# Altium schematic symbol library EISI.SchLib: 270 symbols (part 3 of 3)
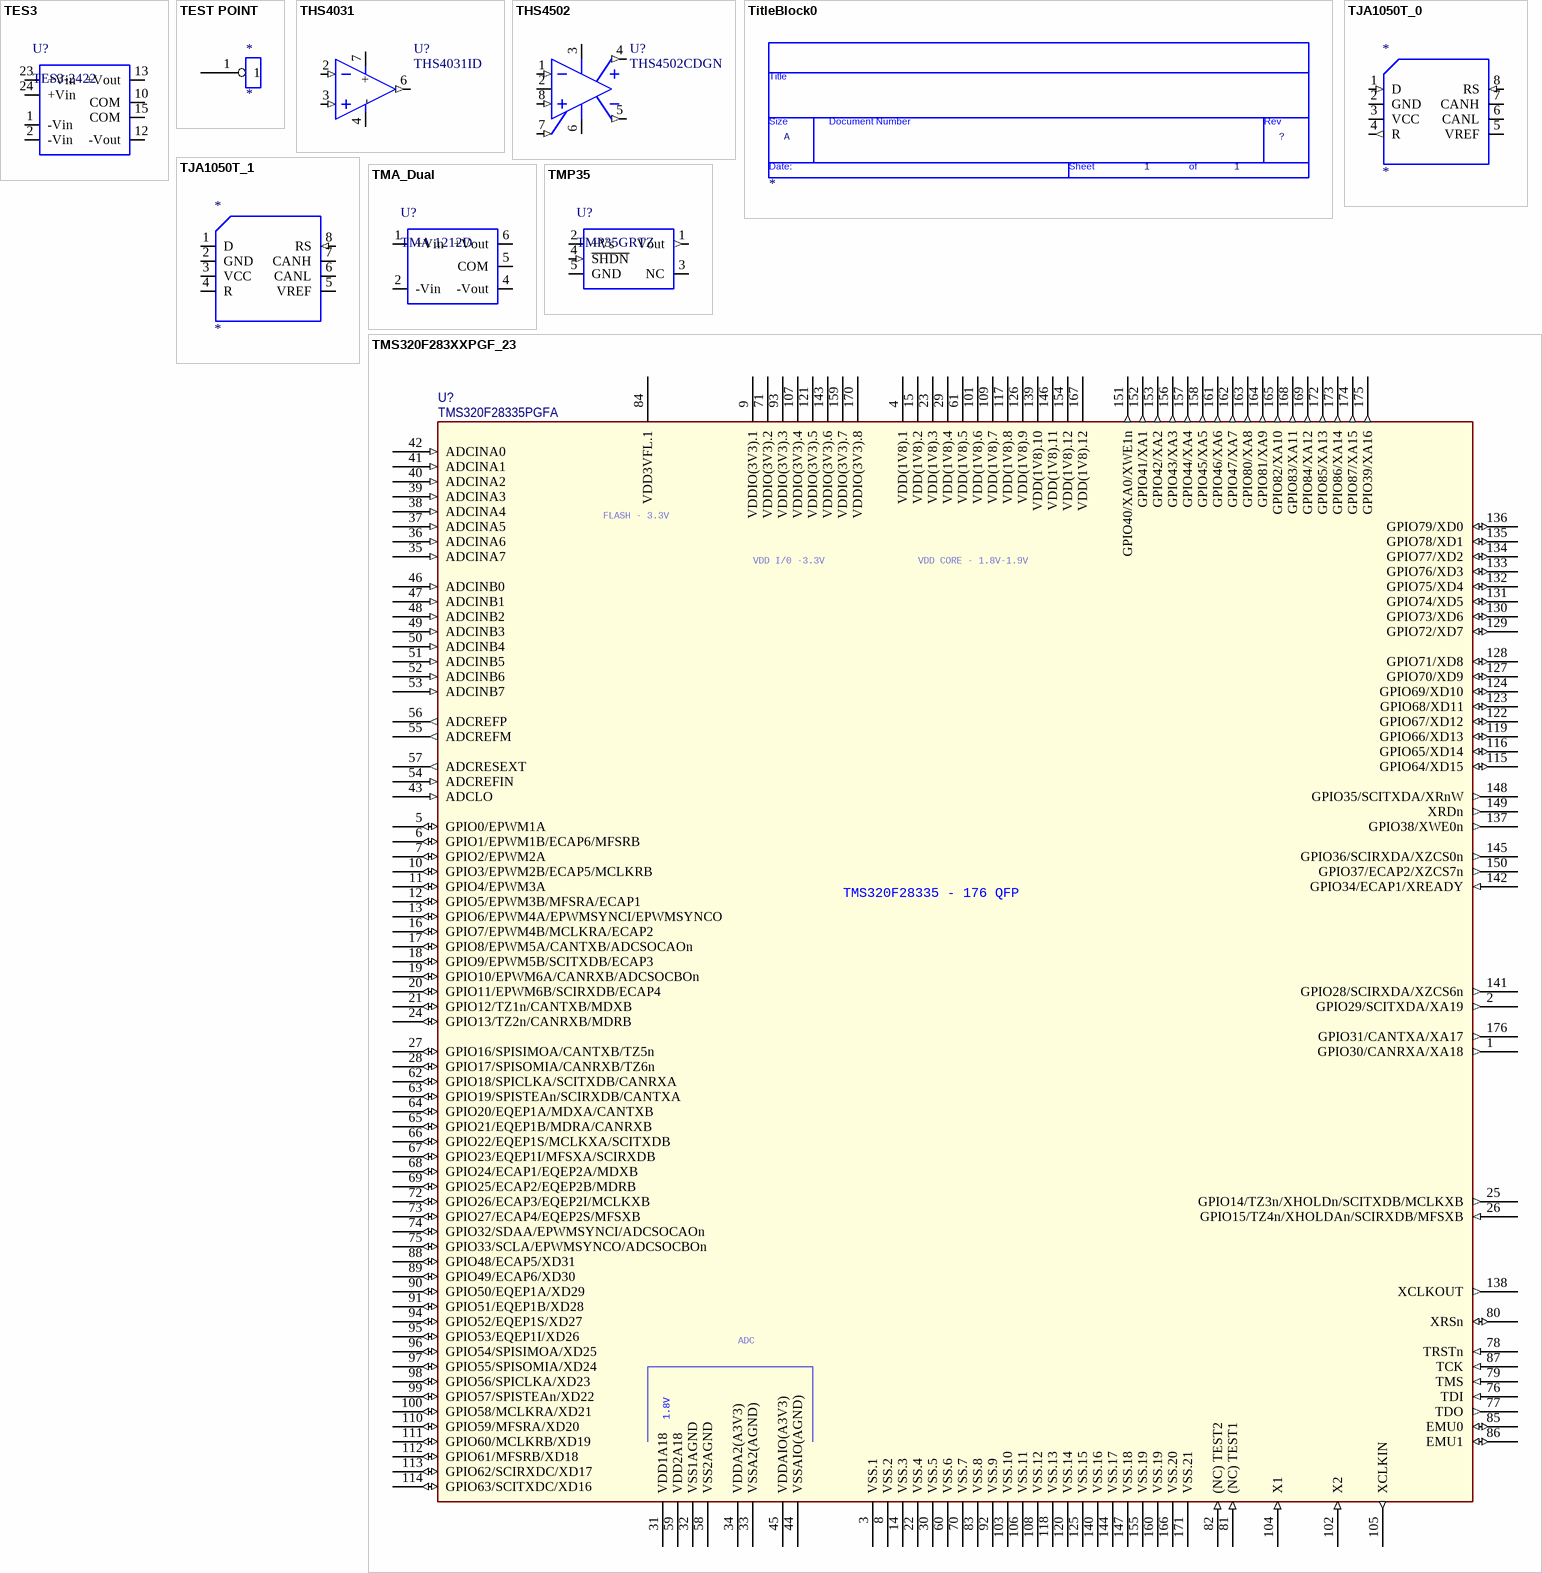
[diagram p21: symbols TES3 to TMS320F283XXPGF_23]

## TMS320F283XXPGF_23
designator U?, comment TMS320F28335PGFA
Part #: 101463-0176
footprint TQFP176 (176-Pin Thin Quad Flat Pack 0.5 mm Pitch, IPC Medium Density)
footprint intp-ic1-1764-1505_176p
pins: 1 GPIO30/CANRXA/XA18 (out), 2 GPIO29/SCITXDA/XA19 (out), 3 VSS.1 (power), 4 VDD(1V8).1 (power), 5 GPIO0/EPWM1A (io), 6 GPIO1/EPWM1B/ECAP6/MFSRB (io), 7 GPIO2/EPWM2A (io), 8 VSS.2 (power), 9 VDDIO(3V3).1 (power), 10 GPIO3/EPWM2B/ECAP5/MCLKRB (io), 11 GPIO4/EPWM3A (io), 12 GPIO5/EPWM3B/MFSRA/ECAP1 (io), 13 GPIO6/EPWM4A/EPWMSYNCI/EPWMSYNCO (io), 14 VSS.3 (power), 15 VDD(1V8).2 (power), 16 GPIO7/EPWM4B/MCLKRA/ECAP2 (io), 17 GPIO8/EPWM5A/CANTXB/ADCSOCAOn (io), 18 GPIO9/EPWM5B/SCITXDB/ECAP3 (io), 19 GPIO10/EPWM6A/CANRXB/ADCSOCBOn (io), 20 GPIO11/EPWM6B/SCIRXDB/ECAP4 (io), 21 GPIO12/TZ1n/CANTXB/MDXB (io), 22 VSS.4 (power), 23 VDD(1V8).3 (power), 24 GPIO13/TZ2n/CANRXB/MDRB (io), 25 GPIO14/TZ3n/XHOLDn/SCITXDB/MCLKXB (out), 26 GPIO15/TZ4n/XHOLDAn/SCIRXDB/MFSXB (in), 27 GPIO16/SPISIMOA/CANTXB/TZ5n (io), 28 GPIO17/SPISOMIA/CANRXB/TZ6n (io), 29 VDD(1V8).4 (power), 30 VSS.5 (power), 31 VDD1A18 (power), 32 VSS1AGND (power), 33 VSSA2(AGND) (power), 34 VDDA2(A3V3) (power), 35 ADCINA7 (in), 36 ADCINA6 (in), 37 ADCINA5 (in), 38 ADCINA4 (in), 39 ADCINA3 (in), 40 ADCINA2 (in), 41 ADCINA1 (in), 42 ADCINA0 (in), 43 ADCLO (in), 44 VSSAIO(AGND) (power), 45 VDDAIO(A3V3) (power), 46 ADCINB0 (in), 47 ADCINB1 (in), 48 ADCINB2 (in), 49 ADCINB3 (in), 50 ADCINB4 (in), 51 ADCINB5 (in), 52 ADCINB6 (in), 53 ADCINB7 (in), 54 ADCREFIN (in), 55 ADCREFM (out), 56 ADCREFP (out), 57 ADCRESEXT (out), 58 VSS2AGND (power), 59 VDD2A18 (power), 60 VSS.6 (power), 61 VDD(1V8).5 (power), 62 GPIO18/SPICLKA/SCITXDB/CANRXA (io), 63 GPIO19/SPISTEAn/SCIRXDB/CANTXA (io), 64 GPIO20/EQEP1A/MDXA/CANTXB (io), 65 GPIO21/EQEP1B/MDRA/CANRXB (io), 66 GPIO22/EQEP1S/MCLKXA/SCITXDB (io), 67 GPIO23/EQEP1I/MFSXA/SCIRXDB (io), 68 GPIO24/ECAP1/EQEP2A/MDXB (io), 69 GPIO25/ECAP2/EQEP2B/MDRB (io), 70 VSS.7 (power), 71 VDDIO(3V3).2 (power), 72 GPIO26/ECAP3/EQEP2I/MCLKXB (io), 73 GPIO27/ECAP4/EQEP2S/MFSXB (io), 74 GPIO32/SDAA/EPWMSYNCI/ADCSOCAOn (io), 75 GPIO33/SCLA/EPWMSYNCO/ADCSOCBOn (io), 76 TDI (in), 77 TDO (out), 78 TRSTn (in), 79 TMS (in), 80 XRSn (io), 81 (NC) TEST1 (in), 82 (NC) TEST2 (in), 83 VSS.8 (power), 84 VDD3VFL.1 (power), 85 EMU0 (io), 86 EMU1 (io), 87 TCK (in), 88 GPIO48/ECAP5/XD31 (io), 89 GPIO49/ECAP6/XD30 (io), 90 GPIO50/EQEP1A/XD29 (io), 91 GPIO51/EQEP1B/XD28 (io), 92 VSS.9 (power), 93 VDDIO(3V3).3 (power), 94 GPIO52/EQEP1S/XD27 (io), 95 GPIO53/EQEP1I/XD26 (io), 96 GPIO54/SPISIMOA/XD25 (io), 97 GPIO55/SPISOMIA/XD24 (io), 98 GPIO56/SPICLKA/XD23 (io), 99 GPIO57/SPISTEAn/XD22 (io), 100 GPIO58/MCLKRA/XD21 (io), 101 VDD(1V8).6 (power), 102 X2 (in), 103 VSS.10 (power), 104 X1 (in), 105 XCLKIN (out), 106 VSS.11 (power), 107 VDDIO(3V3).4 (power), 108 VSS.12 (power), 109 VDD(1V8).7 (power), 110 GPIO59/MFSRA/XD20 (io), 111 GPIO60/MCLKRB/XD19 (io), 112 GPIO61/MFSRB/XD18 (io), 113 GPIO62/SCIRXDC/XD17 (io), 114 GPIO63/SCITXDC/XD16 (io), 115 GPIO64/XD15 (io), 116 GPIO65/XD14 (io), 117 VDD(1V8).8 (power), 118 VSS.13 (power), 119 GPIO66/XD13 (io), 120 VSS.14 (power), 121 VDDIO(3V3).5 (power), 122 GPIO67/XD12 (io), 123 GPIO68/XD11 (io), 124 GPIO69/XD10 (io), 125 VSS.15 (power), 126 VDD(1V8).9 (power), 127 GPIO70/XD9 (io), 128 GPIO71/XD8 (io), 129 GPIO72/XD7 (io), 130 GPIO73/XD6 (io), 131 GPIO74/XD5 (io), 132 GPIO75/XD4 (io), 133 GPIO76/XD3 (io), 134 GPIO77/XD2 (io), 135 GPIO78/XD1 (io), 136 GPIO79/XD0 (io), 137 GPIO38/XWE0n (out), 138 XCLKOUT (out), 139 VDD(1V8).10 (power), 140 VSS.16 (power), 141 GPIO28/SCIRXDA/XZCS6n (out), 142 GPIO34/ECAP1/XREADY (in), 143 VDDIO(3V3).6 (power), 144 VSS.17 (power), 145 GPIO36/SCIRXDA/XZCS0n (out), 146 VDD(1V8).11 (power), 147 VSS.18 (power), 148 GPIO35/SCITXDA/XRnW (out), 149 XRDn (out), 150 GPIO37/ECAP2/XZCS7n (out), 151 GPIO40/XA0/XWE1n (out), 152 GPIO41/XA1 (out), 153 GPIO42/XA2 (out), 154 VDD(1V8).12 (power), 155 VSS.19 (power), 156 GPIO43/XA3 (out), 157 GPIO44/XA4 (out), 158 GPIO45/XA5 (out), 159 VDDIO(3V3).7 (power), 160 VSS.19 (power), 161 GPIO46/XA6 (out), 162 GPIO47/XA7 (out), 163 GPIO80/XA8 (out), 164 GPIO81/XA9 (out), 165 GPIO82/XA10 (out), 166 VSS.20 (power), 167 VDD(1V8).12 (power), 168 GPIO83/XA11 (out), 169 GPIO84/XA12 (out), 170 VDDIO(3V3).8 (power), 171 VSS.21 (power), 172 GPIO85/XA13 (out), 173 GPIO86/XA14 (out), 174 GPIO87/XA15 (out), 175 GPIO39/XA16 (out), 176 GPIO31/CANTXA/XA17 (out)
text: FLASH - 3.3V; VDD I/0 -3.3V; VDD CORE - 1.8V-1.9V; TMS320F28335 - 176 QFP; ADC; 1.8V

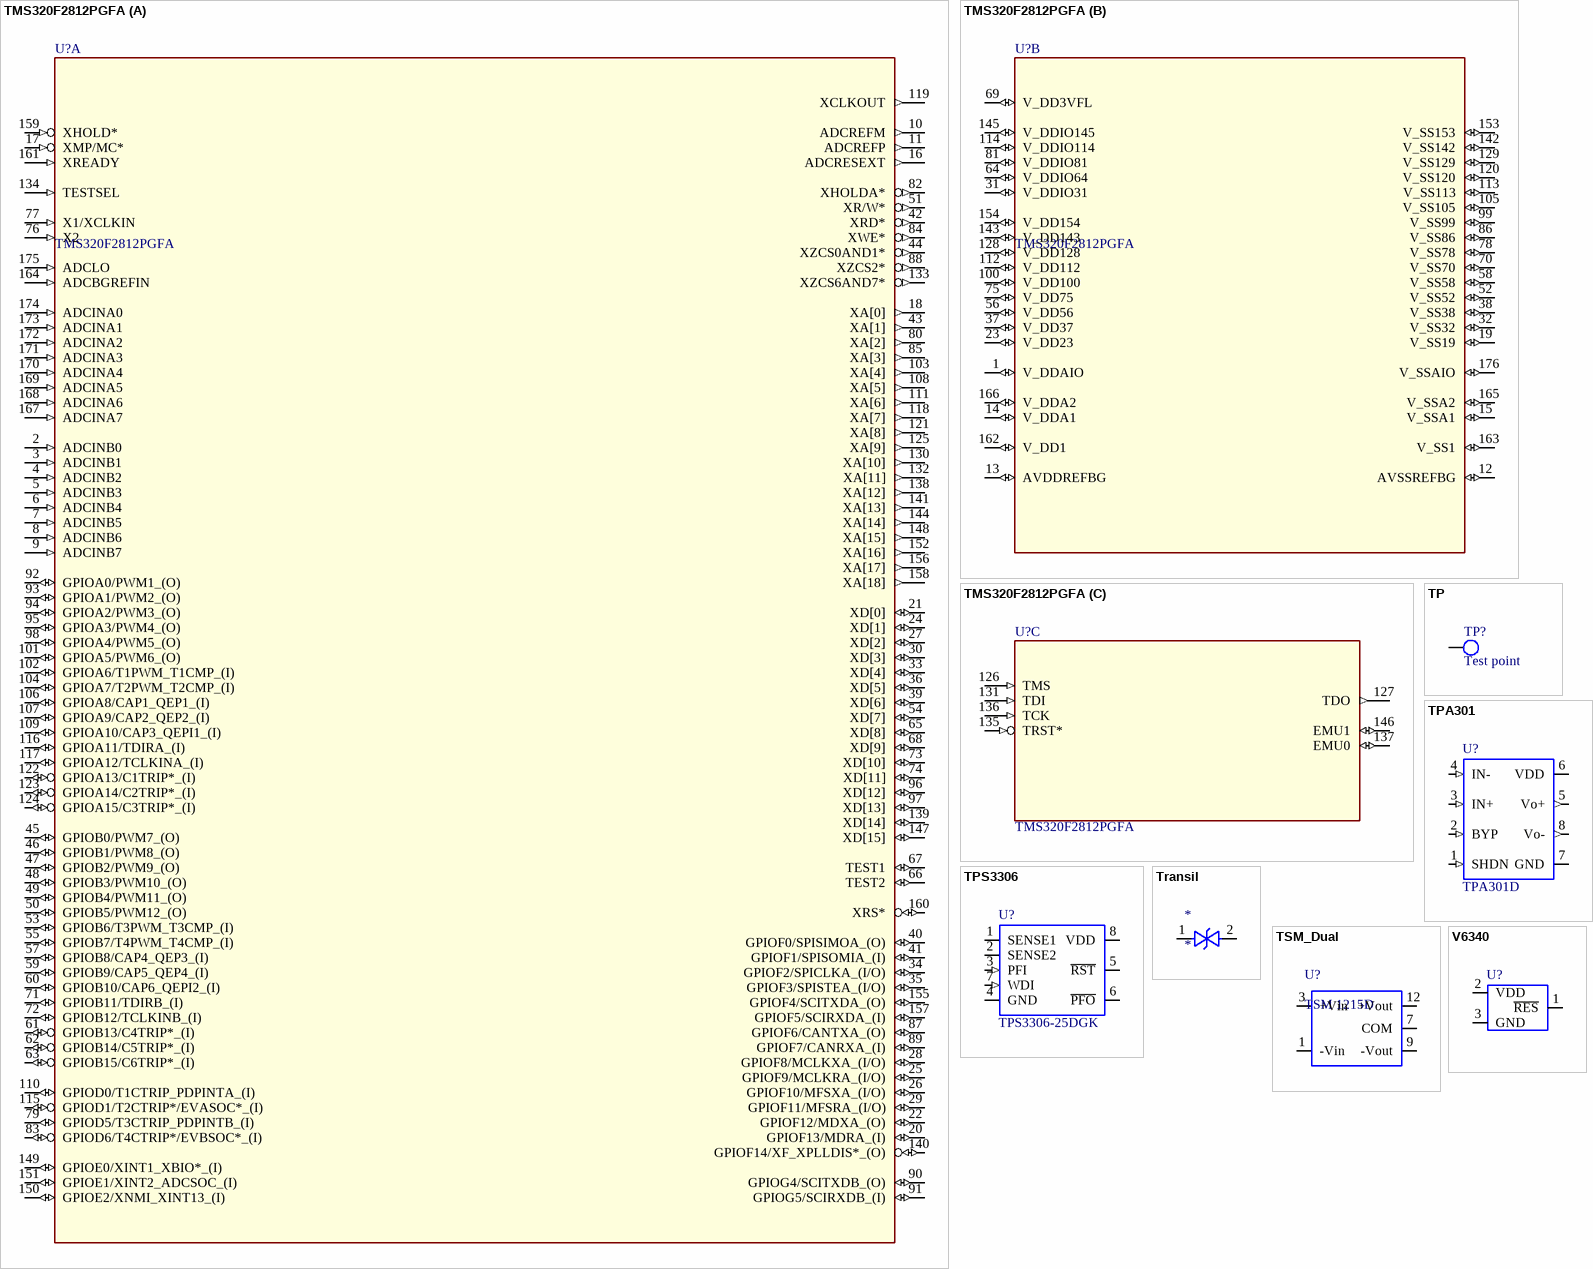
[diagram p14: symbols TMS320F2812PGFA to V6340]

## TMS320F2812PGFA
designator U?
32-Bit Digital Signal Controller with Flash
footprint TQFP176 (176-Pin Thin Quad Flat Pack 0.5 mm Pitch, IPC Medium Density)
part A pins: 2 ADCINB0 (in), 3 ADCINB1 (in), 4 ADCINB2 (in), 5 ADCINB3 (in), 6 ADCINB4 (in), 7 ADCINB5 (in), 8 ADCINB6 (in), 9 ADCINB7 (in), 10 ADCREFM (out), 11 ADCREFP (out), 16 ADCRESEXT (out), 17 XMP/MC* (in), 18 XA[0] (out), 20 GPIOF13/MDRA_(I) (io), 21 XD[0] (io), 22 GPIOF12/MDXA_(O) (io), 24 XD[1] (io), 25 GPIOF9/MCLKRA_(I/O) (io), 26 GPIOF10/MFSXA_(I/O) (io), 27 XD[2] (io), 28 GPIOF8/MCLKXA_(I/O) (io), 29 GPIOF11/MFSRA_(I/O) (io), 30 XD[3] (io), 33 XD[4] (io), 34 GPIOF2/SPICLKA_(I/O) (io), 35 GPIOF3/SPISTEA_(I/O) (io), 36 XD[5] (io), 39 XD[6] (io), 40 GPIOF0/SPISIMOA_(O) (io), 41 GPIOF1/SPISOMIA_(I) (io), 42 XRD* (out), 43 XA[1] (out), 44 XZCS0AND1* (out), 45 GPIOB0/PWM7_(O) (io), 46 GPIOB1/PWM8_(O) (io), 47 GPIOB2/PWM9_(O) (io), 48 GPIOB3/PWM10_(O) (io), 49 GPIOB4/PWM11_(O) (io), 50 GPIOB5/PWM12_(O) (io), 51 XR/W* (out), 53 GPIOB6/T3PWM_T3CMP_(I) (io), 54 XD[7] (io), 55 GPIOB7/T4PWM_T4CMP_(I) (io), 57 GPIOB8/CAP4_QEP3_(I) (io), 59 GPIOB9/CAP5_QEP4_(I) (io), 60 GPIOB10/CAP6_QEPI2_(I) (io), 61 GPIOB13/C4TRIP*_(I) (io), 62 GPIOB14/C5TRIP*_(I) (io), 63 GPIOB15/C6TRIP*_(I) (io), 65 XD[8] (io), 66 TEST2 (io), 67 TEST1 (io), 68 XD[9] (io), 71 GPIOB11/TDIRB_(I) (io), 72 GPIOB12/TCLKINB_(I) (io), 73 XD[10] (io), 74 XD[11] (io), 76 X2 (in), 77 X1/XCLKIN (in), 79 GPIOD5/T3CTRIP_PDPINTB_(I) (io), 80 XA[2] (out), 82 XHOLDA* (out), 83 GPIOD6/T4CTRIP*/EVBSOC*_(I) (io), 84 XWE* (out), 85 XA[3] (out), 87 GPIOF6/CANTXA_(O) (io), 88 XZCS2* (out), 89 GPIOF7/CANRXA_(I) (io), 90 GPIOG4/SCITXDB_(O) (io), 91 GPIOG5/SCIRXDB_(I) (io), 92 GPIOA0/PWM1_(O) (io), 93 GPIOA1/PWM2_(O) (io), 94 GPIOA2/PWM3_(O) (io), 95 GPIOA3/PWM4_(O) (io), 96 XD[12] (io), 97 XD[13] (io), 98 GPIOA4/PWM5_(O) (io), 101 GPIOA5/PWM6_(O) (io), 102 GPIOA6/T1PWM_T1CMP_(I) (io), 103 XA[4] (out), 104 GPIOA7/T2PWM_T2CMP_(I) (io), 106 GPIOA8/CAP1_QEP1_(I) (io), 107 GPIOA9/CAP2_QEP2_(I) (io), 108 XA[5] (out), 109 GPIOA10/CAP3_QEPI1_(I) (io), 110 GPIOD0/T1CTRIP_PDPINTA_(I) (io), 111 XA[6] (out), 115 GPIOD1/T2CTRIP*/EVASOC*_(I) (io), 116 GPIOA11/TDIRA_(I) (io), 117 GPIOA12/TCLKINA_(I) (io), 118 XA[7] (out), 119 XCLKOUT (out), 121 XA[8] (out), 122 GPIOA13/C1TRIP*_(I) (io), 123 GPIOA14/C2TRIP*_(I) (io), 124 GPIOA15/C3TRIP*_(I) (io), 125 XA[9] (out), 130 XA[10] (out), 132 XA[11] (out), 133 XZCS6AND7* (out), 134 TESTSEL (in), 138 XA[12] (out), 139 XD[14] (io), 140 GPIOF14/XF_XPLLDIS*_(O) (io), 141 XA[13] (out), 144 XA[14] (out), 147 XD[15] (io), 148 XA[15] (out), 149 GPIOE0/XINT1_XBIO*_(I) (io), 150 GPIOE2/XNMI_XINT13_(I) (io), 151 GPIOE1/XINT2_ADCSOC_(I) (io), 152 XA[16] (out), 155 GPIOF4/SCITXDA_(O) (io), 156 XA[17] (out), 157 GPIOF5/SCIRXDA_(I) (io), 158 XA[18] (out), 159 XHOLD* (in), 160 XRS* (io), 161 XREADY (in), 164 ADCBGREFIN (in), 167 ADCINA7 (in), 168 ADCINA6 (in), 169 ADCINA5 (in), 170 ADCINA4 (in), 171 ADCINA3 (in), 172 ADCINA2 (in), 173 ADCINA1 (in), 174 ADCINA0 (in), 175 ADCLO (in)
part B pins: 1 V_DDAIO (io), 12 AVSSREFBG (io), 13 AVDDREFBG (io), 14 V_DDA1 (io), 15 V_SSA1 (io), 19 V_SS19 (io), 23 V_DD23 (io), 31 V_DDIO31 (io), 32 V_SS32 (io), 37 V_DD37 (io), 38 V_SS38 (io), 52 V_SS52 (io), 56 V_DD56 (io), 58 V_SS58 (io), 64 V_DDIO64 (io), 69 V_DD3VFL (io), 70 V_SS70 (io), 75 V_DD75 (io), 78 V_SS78 (io), 81 V_DDIO81 (io), 86 V_SS86 (io), 99 V_SS99 (io), 100 V_DD100 (io), 105 V_SS105 (io), 112 V_DD112 (io), 113 V_SS113 (io), 114 V_DDIO114 (io), 120 V_SS120 (io), 128 V_DD128 (io), 129 V_SS129 (io), 142 V_SS142 (io), 143 V_DD143 (io), 145 V_DDIO145 (io), 153 V_SS153 (io), 154 V_DD154 (io), 162 V_DD1 (io), 163 V_SS1 (io), 165 V_SSA2 (io), 166 V_DDA2 (io), 176 V_SSAIO (io)
part C pins: 126 TMS (in), 127 TDO (out), 131 TDI (in), 135 TRST* (in), 136 TCK (in), 137 EMU0 (io), 146 EMU1 (io)

## TP
designator TP?, comment Test point
footprint TP (Test point)
pins: 1 TP

## TPA301
designator U?, comment TPA301D
Audio power amplifier
footprint SO801
pins: 1 SHDN (in), 2 BYP (in), 3 IN+ (in), 4 IN- (in), 5 Vo+ (out), 6 VDD (power), 7 GND (power), 8 Vo- (out)

## TPS3306
designator U?, comment TPS3306-25DGK
Dual Processor Supervisory Circuit
footprint UMAX8 (Shrink Small Outline; 8 Leads; Body Width 3 mm; Pitch 0.65 mm)
pins: 1 SENSE1 (power), 2 SENSE2 (power), 3 PFI (in), 4 GND (power), 5 ~{RST} (oc), 6 ~{PFO} (oc), 7 WDI (in), 8 VDD (power)

## Transil
designator *
pins: 1 (power), 2 (power)

## TSM_Dual
designator U?, comment TSM 1215D
DC/DC Converter 1W Dual outputs; Manufacturer: Traco Power
footprint TSM_Dual (DC/DC Traco TSM dual)
pins: 1 -Vin (power), 3 +Vin (power), 7 COM (power), 9 -Vout (power), 12 +Vout (power)

## V6340
designator U?
uP reset circuit open-drain
footprint SOT2301
pins: 1 ~{RES} (oc), 2 VDD (power), 3 GND (power)

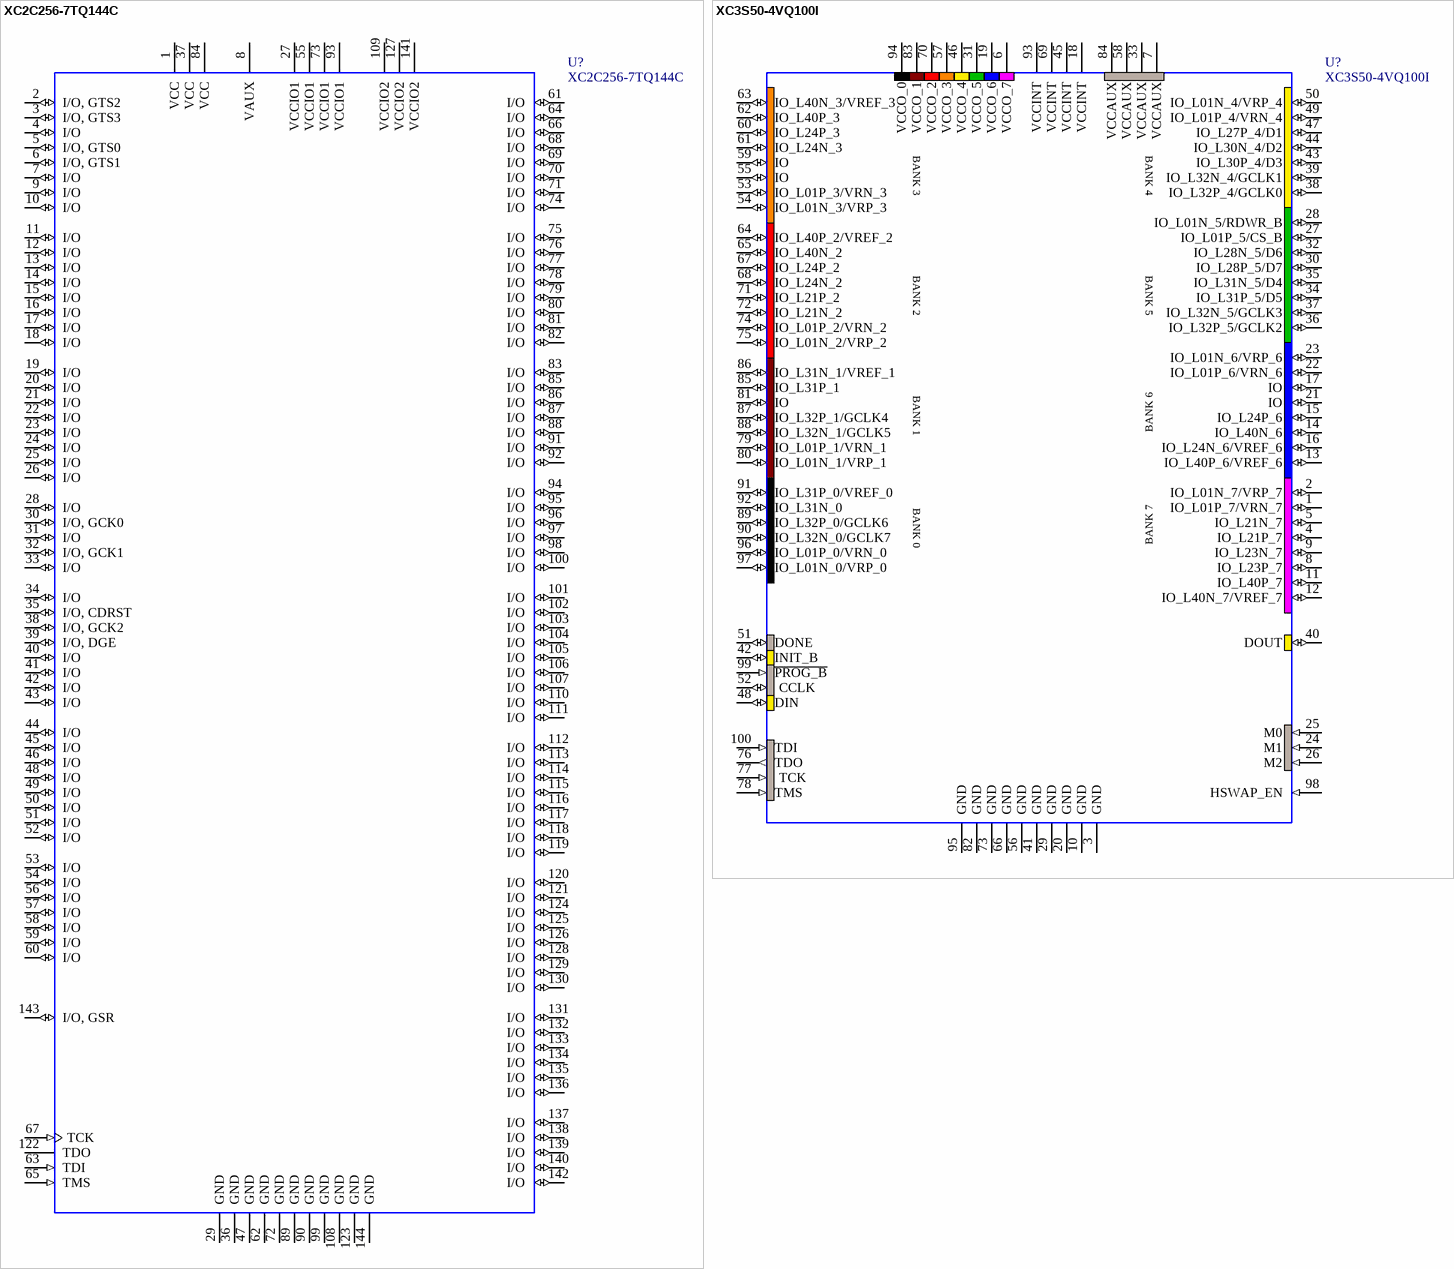
[diagram p15: symbols XC2C256-7TQ144C to XC3S50-4VQ100I]

## XC2C256-7TQ144C
designator U?
CoolRunner-II, 1.8V, 256 Macrocell CPLD, 144-Pin TQFP
footprint TQ144 (144-Pin Thin Quad Flat Pack (TQ144))
pins: 1 VCC (power), 2 I/O, GTS2 (io), 3 I/O, GTS3 (io), 4 I/O (io), 5 I/O, GTS0 (io), 6 I/O, GTS1 (io), 7 I/O (io), 8 VAUX (power), 9 I/O (io), 10 I/O (io), 11 I/O (io), 12 I/O (io), 13 I/O (io), 14 I/O (io), 15 I/O (io), 16 I/O (io), 17 I/O (io), 18 I/O (io), 19 I/O (io), 20 I/O (io), 21 I/O (io), 22 I/O (io), 23 I/O (io), 24 I/O (io), 25 I/O (io), 26 I/O (io), 27 VCCIO1 (power), 28 I/O (io), 29 GND (power), 30 I/O, GCK0 (io), 31 I/O (io), 32 I/O, GCK1 (io), 33 I/O (io), 34 I/O (io), 35 I/O, CDRST (io), 36 GND (power), 37 VCC (power), 38 I/O, GCK2 (io), 39 I/O, DGE (io), 40 I/O (io), 41 I/O (io), 42 I/O (io), 43 I/O (io), 44 I/O (io), 45 I/O (io), 46 I/O (io), 47 GND (power), 48 I/O (io), 49 I/O (io), 50 I/O (io), 51 I/O (io), 52 I/O (io), 53 I/O (io), 54 I/O (io), 55 VCCIO1 (power), 56 I/O (io), 57 I/O (io), 58 I/O (io), 59 I/O (io), 60 I/O (io), 61 I/O (io), 62 GND (power), 63 TDI (in), 64 I/O (io), 65 TMS (in), 66 I/O (io), 67 TCK (in), 68 I/O (io), 69 I/O (io), 70 I/O (io), 71 I/O (io), 72 GND (power), 73 VCCIO1 (power), 74 I/O (io), 75 I/O (io), 76 I/O (io), 77 I/O (io), 78 I/O (io), 79 I/O (io), 80 I/O (io), 81 I/O (io), 82 I/O (io), 83 I/O (io), 84 VCC (power), 85 I/O (io), 86 I/O (io), 87 I/O (io), 88 I/O (io), 89 GND (power), 90 GND (power), 91 I/O (io), 92 I/O (io), 93 VCCIO1 (power), 94 I/O (io), 95 I/O (io), 96 I/O (io), 97 I/O (io), 98 I/O (io), 99 GND (power), 100 I/O (io), 101 I/O (io), 102 I/O (io), 103 I/O (io), 104 I/O (io), 105 I/O (io), 106 I/O (io), 107 I/O (io), 108 GND (power), 109 VCCIO2 (power), 110 I/O (io), 111 I/O (io), 112 I/O (io), 113 I/O (io), 114 I/O (io), 115 I/O (io), 116 I/O (io), 117 I/O (io), 118 I/O (io), 119 I/O (io), 120 I/O (io), 121 I/O (io), 122 TDO (hiz), 123 GND (power), 124 I/O (io), 125 I/O (io), 126 I/O (io), 127 VCCIO2 (power), 128 I/O (io), 129 I/O (io), 130 I/O (io), 131 I/O (io), 132 I/O (io), 133 I/O (io), 134 I/O (io), 135 I/O (io), 136 I/O (io), 137 I/O (io), 138 I/O (io), 139 I/O (io), 140 I/O (io), 141 VCCIO2 (power), 142 I/O (io), 143 I/O, GSR (io), 144 GND (power)

## XC3S50-4VQ100I
designator U?
Spartan-3 1.2V FPGA, 63 User I/Os, 100-pin VQFP, Standard Performance, Industrial Grade; Package Information: Latest Revision: ver1.1, Oct-2002; Code - JEDEC: MS-026-AED; Code - IPC: SQFP14X14-100; Published: 17-Sep-2003; Datasheet: Latest Revision: Dec-2003; Package Reference: VQ100; Publisher: Altium Limited
footprint VQ100 (100-Pin Very Thin Quad Flat Pack (VQ100))
3D model XC3S50-VQ100 (PCB3D Model)
pins: 1 IO_L01P_7/VRN_7 (io), 2 IO_L01N_7/VRP_7 (io), 3 GND (power), 4 IO_L21P_7 (io), 5 IO_L21N_7 (io), 6 VCCO_7 (power), 7 VCCAUX (power), 8 IO_L23P_7 (io), 9 IO_L23N_7 (io), 10 GND (power), 11 IO_L40P_7 (io), 12 IO_L40N_7/VREF_7 (io), 13 IO_L40P_6/VREF_6 (io), 14 IO_L40N_6 (io), 15 IO_L24P_6 (io), 16 IO_L24N_6/VREF_6 (io), 17 IO (io), 18 VCCINT (power), 19 VCCO_6 (power), 20 GND (power), 21 IO (io), 22 IO_L01P_6/VRN_6 (io), 23 IO_L01N_6/VRP_6 (io), 24 M1 (in), 25 M0 (in), 26 M2 (in), 27 IO_L01P_5/CS_B (io), 28 IO_L01N_5/RDWR_B (io), 29 GND (power), 30 IO_L28P_5/D7 (io), 31 VCCO_5 (power), 32 IO_L28N_5/D6 (io), 33 VCCAUX (power), 34 IO_L31P_5/D5 (io), 35 IO_L31N_5/D4 (io), 36 IO_L32P_5/GCLK2 (io), 37 IO_L32N_5/GCLK3 (io), 38 IO_L32P_4/GCLK0 (io), 39 IO_L32N_4/GCLK1 (io), 40 DOUT (io), 41 GND (power), 42 INIT_B (io), 43 IO_L30P_4/D3 (io), 44 IO_L30N_4/D2 (io), 45 VCCINT (power), 46 VCCO_4 (power), 47 IO_L27P_4/D1 (io), 48 DIN (io), 49 IO_L01P_4/VRN_4 (io), 50 IO_L01N_4/VRP_4 (io), 51 DONE (io), 52 CCLK (io), 53 IO_L01P_3/VRN_3 (io), 54 IO_L01N_3/VRP_3 (io), 55 IO (io), 56 GND (power), 57 VCCO_3 (power), 58 VCCAUX (power), 59 IO (io), 60 IO_L24P_3 (io), 61 IO_L24N_3 (io), 62 IO_L40P_3 (io), 63 IO_L40N_3/VREF_3 (io), 64 IO_L40P_2/VREF_2 (io), 65 IO_L40N_2 (io), 66 GND (power), 67 IO_L24P_2 (io), 68 IO_L24N_2 (io), 69 VCCINT (power), 70 VCCO_2 (power), 71 IO_L21P_2 (io), 72 IO_L21N_2 (io), 73 GND (power), 74 IO_L01P_2/VRN_2 (io), 75 IO_L01N_2/VRP_2 (io), 76 TDO (out), 77 TCK (in), 78 TMS (in), 79 IO_L01P_1/VRN_1 (io), 80 IO_L01N_1/VRP_1 (io), 81 IO (io), 82 GND (power), 83 VCCO_1 (power), 84 VCCAUX (power), 85 IO_L31P_1 (io), 86 IO_L31N_1/VREF_1 (io), 87 IO_L32P_1/GCLK4 (io), 88 IO_L32N_1/GCLK5 (io), 89 IO_L32P_0/GCLK6 (io), 90 IO_L32N_0/GCLK7 (io), 91 IO_L31P_0/VREF_0 (io), 92 IO_L31N_0 (io), 93 VCCINT (power), 94 VCCO_0 (power), 95 GND (power), 96 IO_L01P_0/VRN_0 (io), 97 IO_L01N_0/VRP_0 (io), 98 HSWAP_EN (in), 99 ~{PROG_B} (in), 100 TDI (in)
text: BANK 3; BANK 4; BANK 2; BANK 5; BANK 1; BANK 6; BANK 0; BANK 7

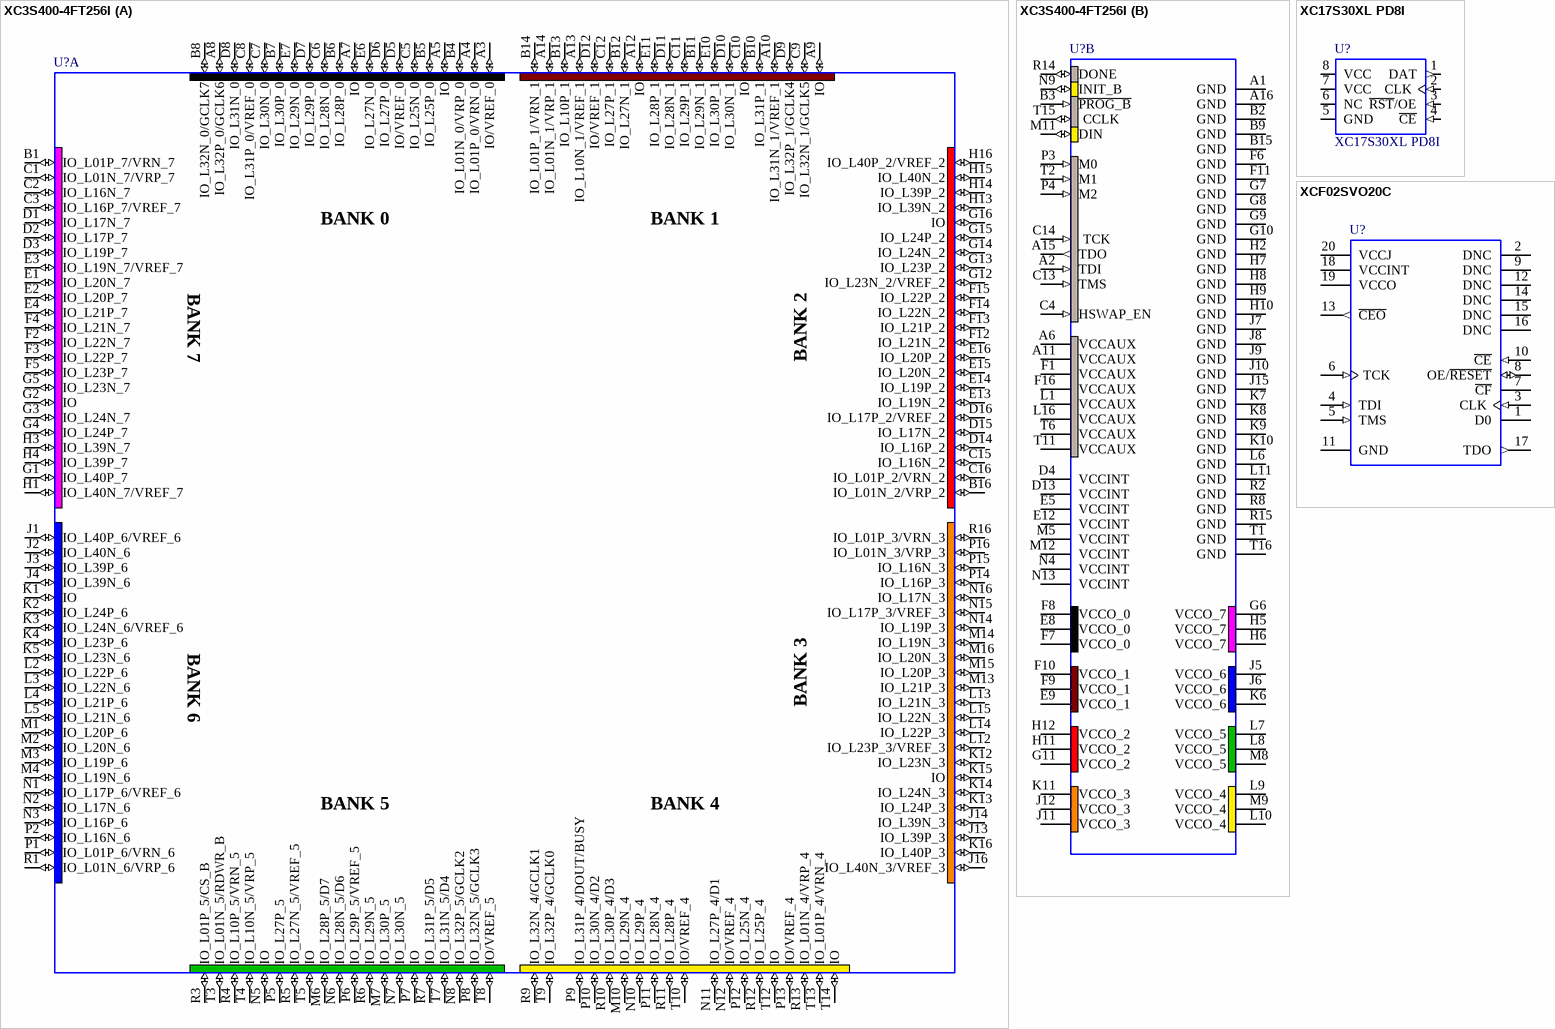
[diagram p16: symbols XC3S400-4FT256I to XCF02SVO20C]

## XC3S400-4FT256I
designator U?
Spartan-3 1.2V FPGA
footprint FT256
3D model XC3S400-FT256 (256-Ball Fine Pitch Thin Ball Grid Array (FT256))
part A pins: A3 IO/VREF_0 (io), A4 IO_L01P_0/VRN_0 (io), A5 IO (io), A7 IO (io), A8 IO_L32P_0/GCLK6 (io), A9 IO (io), A10 IO_L31N_1/VREF_1 (io), A12 IO (io), A13 IO_L10N_1/VREF_1 (io), A14 IO_L01N_1/VRP_1 (io), B1 IO_L01P_7/VRN_7 (io), B4 IO_L01N_0/VRP_0 (io), B5 IO_L25P_0 (io), B6 IO_L28P_0 (io), B7 IO_L30P_0 (io), B8 IO_L32N_0/GCLK7 (io), B10 IO_L31P_1 (io), B11 IO_L29N_1 (io), B12 IO_L27N_1 (io), B13 IO_L10P_1 (io), B14 IO_L01P_1/VRN_1 (io), B16 IO_L01N_2/VRP_2 (io), C1 IO_L01N_7/VRP_7 (io), C2 IO_L16N_7 (io), C3 IO_L16P_7/VREF_7 (io), C5 IO_L25N_0 (io), C6 IO_L28N_0 (io), C7 IO_L30N_0 (io), C8 IO_L31P_0/VREF_0 (io), C9 IO_L32N_1/GCLK5 (io), C10 IO (io), C11 IO_L29P_1 (io), C12 IO_L27P_1 (io), C15 IO_L16N_2 (io), C16 IO_L01P_2/VRN_2 (io), D1 IO_L17N_7 (io), D2 IO_L17P_7 (io), D3 IO_L19P_7 (io), D5 IO/VREF_0 (io), D6 IO_L27P_0 (io), D7 IO_L29P_0 (io), D8 IO_L31N_0 (io), D9 IO_L32P_1/GCLK4 (io), D10 IO_L30N_1 (io), D11 IO_L28N_1 (io), D12 IO/VREF_1 (io), D14 IO_L16P_2 (io), D15 IO_L17N_2 (io), D16 IO_L17P_2/VREF_2 (io), E1 IO_L20N_7 (io), E2 IO_L20P_7 (io), E3 IO_L19N_7/VREF_7 (io), E4 IO_L21P_7 (io), E6 IO_L27N_0 (io), E7 IO_L29N_0 (io), E10 IO_L30P_1 (io), E11 IO_L28P_1 (io), E13 IO_L19N_2 (io), E14 IO_L19P_2 (io), E15 IO_L20N_2 (io), E16 IO_L20P_2 (io), F2 IO_L22N_7 (io), F3 IO_L22P_7 (io), F4 IO_L21N_7 (io), F5 IO_L23P_7 (io), F12 IO_L21N_2 (io), F13 IO_L21P_2 (io), F14 IO_L22N_2 (io), F15 IO_L22P_2 (io), G1 IO_L40P_7 (io), G2 IO (io), G3 IO_L24N_7 (io), G4 IO_L24P_7 (io), G5 IO_L23N_7 (io), G12 IO_L23N_2/VREF_2 (io), G13 IO_L23P_2 (io), G14 IO_L24N_2 (io), G15 IO_L24P_2 (io), G16 IO (io), H1 IO_L40N_7/VREF_7 (io), H3 IO_L39N_7 (io), H4 IO_L39P_7 (io), H13 IO_L39N_2 (io), H14 IO_L39P_2 (io), H15 IO_L40N_2 (io), H16 IO_L40P_2/VREF_2 (io), J1 IO_L40P_6/VREF_6 (io), J2 IO_L40N_6 (io), J3 IO_L39P_6 (io), J4 IO_L39N_6 (io), J13 IO_L39P_3 (io), J14 IO_L39N_3 (io), J16 IO_L40N_3/VREF_3 (io), K1 IO (io), K2 IO_L24P_6 (io), K3 IO_L24N_6/VREF_6 (io), K4 IO_L23P_6 (io), K5 IO_L23N_6 (io), K12 IO_L23N_3 (io), K13 IO_L24P_3 (io), K14 IO_L24N_3 (io), K15 IO (io), K16 IO_L40P_3 (io), L2 IO_L22P_6 (io), L3 IO_L22N_6 (io), L4 IO_L21P_6 (io), L5 IO_L21N_6 (io), L12 IO_L23P_3/VREF_3 (io), L13 IO_L21N_3 (io), L14 IO_L22P_3 (io), L15 IO_L22N_3 (io), M1 IO_L20P_6 (io), M2 IO_L20N_6 (io), M3 IO_L19P_6 (io), M4 IO_L19N_6 (io), M6 IO_L28P_5/D7 (io), M7 IO_L30P_5 (io), M10 IO_L29N_4 (io), M13 IO_L21P_3 (io), M14 IO_L19N_3 (io), M15 IO_L20P_3 (io), M16 IO_L20N_3 (io), N1 IO_L17P_6/VREF_6 (io), N2 IO_L17N_6 (io), N3 IO_L16P_6 (io), N5 IO (io), N6 IO_L28N_5/D6 (io), N7 IO_L30N_5 (io), N8 IO_L32P_5/GCLK2 (io), N10 IO_L29P_4 (io), N11 IO_L27P_4/D1 (io), N12 IO/VREF_4 (io), N14 IO_L19P_3 (io), N15 IO_L17P_3/VREF_3 (io), N16 IO_L17N_3 (io), P1 IO_L01P_6/VRN_6 (io), P2 IO_L16N_6 (io), P5 IO_L27P_5 (io), P6 IO_L29P_5/VREF_5 (io), P7 IO (io), P8 IO_L32N_5/GCLK3 (io), P9 IO_L31P_4/DOUT/BUSY (io), P10 IO_L30N_4/D2 (io), P11 IO_L28N_4 (io), P12 IO_L25N_4 (io), P13 IO/VREF_4 (io), P14 IO_L16P_3 (io), P15 IO_L16N_3 (io), P16 IO_L01N_3/VRP_3 (io), R1 IO_L01N_6/VRP_6 (io), R3 IO_L01P_5/CS_B (io), R4 IO_L10P_5/VRN_5 (io), R5 IO_L27N_5/VREF_5 (io), R6 IO_L29N_5 (io), R7 IO_L31P_5/D5 (io), R9 IO_L32N_4/GCLK1 (io), R10 IO_L30P_4/D3 (io), R11 IO_L28P_4 (io), R12 IO_L25P_4 (io), R13 IO_L01N_4/VRP_4 (io), R16 IO_L01P_3/VRN_3 (io), T3 IO_L01N_5/RDWR_B (io), T4 IO_L10N_5/VRP_5 (io), T5 IO (io), T7 IO_L31N_5/D4 (io), T8 IO/VREF_5 (io), T9 IO_L32P_4/GCLK0 (io), T10 IO/VREF_4 (io), T12 IO (io), T13 IO_L01P_4/VRN_4 (io), T14 IO (io)
part B pins: A1 GND (power), A2 TDI (in), A6 VCCAUX (power), A11 VCCAUX (power), A15 TDO (out), A16 GND (power), B2 GND (power), B3 ~{PROG_B} (in), B9 GND (power), B15 GND (power), C4 HSWAP_EN (in), C13 TMS (in), C14 TCK (in), D4 VCCINT (power), D13 VCCINT (power), E5 VCCINT (power), E8 VCCO_0 (power), E9 VCCO_1 (power), E12 VCCINT (power), F1 VCCAUX (power), F6 GND (power), F7 VCCO_0 (power), F8 VCCO_0 (power), F9 VCCO_1 (power), F10 VCCO_1 (power), F11 GND (power), F16 VCCAUX (power), G6 VCCO_7 (power), G7 GND (power), G8 GND (power), G9 GND (power), G10 GND (power), G11 VCCO_2 (power), H2 GND (power), H5 VCCO_7 (power), H6 VCCO_7 (power), H7 GND (power), H8 GND (power), H9 GND (power), H10 GND (power), H11 VCCO_2 (power), H12 VCCO_2 (power), J5 VCCO_6 (power), J6 VCCO_6 (power), J7 GND (power), J8 GND (power), J9 GND (power), J10 GND (power), J11 VCCO_3 (power), J12 VCCO_3 (power), J15 GND (power), K6 VCCO_6 (power), K7 GND (power), K8 GND (power), K9 GND (power), K10 GND (power), K11 VCCO_3 (power), L1 VCCAUX (power), L6 GND (power), L7 VCCO_5 (power), L8 VCCO_5 (power), L9 VCCO_4 (power), L10 VCCO_4 (power), L11 GND (power), L16 VCCAUX (power), M5 VCCINT (power), M8 VCCO_5 (power), M9 VCCO_4 (power), M11 DIN (io), M12 VCCINT (power), N4 VCCINT (power), N9 INIT_B (io), N13 VCCINT (power), P3 M0 (in), P4 M2 (in), R2 GND (power), R8 GND (power), R14 DONE (io), R15 GND (power), T1 GND (power), T2 M1 (in), T6 VCCAUX (power), T11 VCCAUX (power), T15 CCLK (io), T16 GND (power)
part A text: BANK 0; BANK 1; BANK 7; BANK 2; BANK 6; BANK 3; BANK 5; BANK 4

## XC17S30XL PD8I
designator U?
Serial PROM; Manufacturer: Xilinx; Class I: Memory; Revision: July-2002: Re-released for DXP Platform.; Package Reference: PDIP8; Class II: Serial PROM
footprint DIP-8/D9.8
pins: 1 DAT (out), 2 CLK (in), 3 ~{RST}/OE (in), 4 ~{CE} (in), 5 GND (power), 6 NC, 7 VCC (power), 8 VCC (power)

## XCF02SVO20C
designator U?
XCF00S Series, Platform Flash In-System Programmable Configuration 3.3V PROM
footprint VO20 (20-Pin Thin Small-Outline Package (VO20))
pins: 1 D0 (hiz) "Serial Data Output, for configuring an FPGA in serial mode.", 2 DNC "Leave Unconnected.", 3 CLK (in) "Configuration Clock Input.", 4 TDI (in) "JTAG Serial Data Input.", 5 TMS (in) "JTAG Mode Select Input.", 6 TCK (in) "JTAG Test Clock Input.", 7 ~{CF} (oc) "Configuration Pulse (Open-Drain Output).", 8 OE/~{RESET} (io) "Output Enable/Reset (Open-Drain I/O).", 9 DNC "Leave Unconnected.", 10 ~{CE} (in) "Chip Enable Input.", 11 GND (power) "Ground", 12 DNC "Leave Unconnected.", 13 ~{CEO} (out) "Chip Enable Output, connects to the CE input of the next PROM in the chain.", 14 DNC "Leave Unconnected.", 15 DNC "Leave Unconnected.", 16 DNC "Leave Unconnected.", 17 TDO (out) "JTAG Serial Data Output.", 18 VCCINT (power) "+3.3V Supply for internal logic.", 19 VCCO (power) "+3.3V, 2.5V, or 1.8V I/O Supply.", 20 VCCJ (power) "+3.3V or 2.5V JTAG Signals I/O Supply."

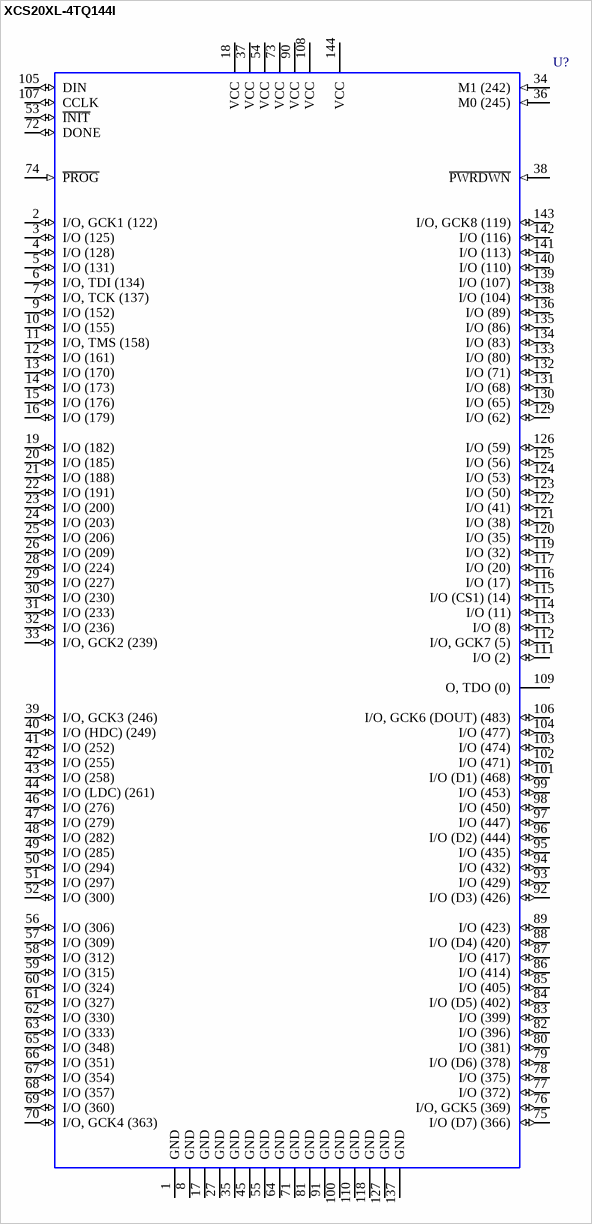
[diagram p17: symbol XCS20XL-4TQ144I]

## XCS20XL-4TQ144I
designator U?
Spartan XL FPGA; Manufacturer: Xilinx; Revision: July-2002: Re-released for DXP Platform.; Package Reference: TQ144; Class I: FPGA; Class II: Spartan
footprint F-QFP20x20-G144/N
pins: 1 GND (power), 2 I/O, GCK1 (122) (io), 3 I/O (125) (io), 4 I/O (128) (io), 5 I/O (131) (io), 6 I/O, TDI (134) (io), 7 I/O, TCK (137) (io), 8 GND (power), 9 I/O (152) (io), 10 I/O (155) (io), 11 I/O, TMS (158) (io), 12 I/O (161) (io), 13 I/O (170) (io), 14 I/O (173) (io), 15 I/O (176) (io), 16 I/O (179) (io), 17 GND (power), 18 VCC (power), 19 I/O (182) (io), 20 I/O (185) (io), 21 I/O (188) (io), 22 I/O (191) (io), 23 I/O (200) (io), 24 I/O (203) (io), 25 I/O (206) (io), 26 I/O (209) (io), 27 GND (power), 28 I/O (224) (io), 29 I/O (227) (io), 30 I/O (230) (io), 31 I/O (233) (io), 32 I/O (236) (io), 33 I/O, GCK2 (239) (io), 34 M1 (242) (in), 35 GND (power), 36 M0 (245) (in), 37 VCC (power), 38 ~{PWRDWN} (in), 39 I/O, GCK3 (246) (io), 40 I/O (HDC) (249) (io), 41 I/O (252) (io), 42 I/O (255) (io), 43 I/O (258) (io), 44 I/O (LDC) (261) (io), 45 GND (power), 46 I/O (276) (io), 47 I/O (279) (io), 48 I/O (282) (io), 49 I/O (285) (io), 50 I/O (294) (io), 51 I/O (297) (io), 52 I/O (300) (io), 53 ~{INIT} (io), 54 VCC (power), 55 GND (power), 56 I/O (306) (io), 57 I/O (309) (io), 58 I/O (312) (io), 59 I/O (315) (io), 60 I/O (324) (io), 61 I/O (327) (io), 62 I/O (330) (io), 63 I/O (333) (io), 64 GND (power), 65 I/O (348) (io), 66 I/O (351) (io), 67 I/O (354) (io), 68 I/O (357) (io), 69 I/O (360) (io), 70 I/O, GCK4 (363) (io), 71 GND (power), 72 DONE (io), 73 VCC (power), 74 ~{PROG} (in), 75 I/O (D7) (366) (io), 76 I/O, GCK5 (369) (io), 77 I/O (372) (io), 78 I/O (375) (io), 79 I/O (D6) (378) (io), 80 I/O (381) (io), 81 GND (power), 82 I/O (396) (io), 83 I/O (399) (io), 84 I/O (D5) (402) (io), 85 I/O (405) (io), 86 I/O (414) (io), 87 I/O (417) (io), 88 I/O (D4) (420) (io), 89 I/O (423) (io), 90 VCC (power), 91 GND (power), 92 I/O (D3) (426) (io), 93 I/O (429) (io), 94 I/O (432) (io), 95 I/O (435) (io), 96 I/O (D2) (444) (io), 97 I/O (447) (io), 98 I/O (450) (io), 99 I/O (453) (io), 100 GND (power), 101 I/O (D1) (468) (io), 102 I/O (471) (io), 103 I/O (474) (io), 104 I/O (477) (io), 105 DIN (io), 106 I/O, GCK6 (DOUT) (483) (io), 107 CCLK (io), 108 VCC (power), 109 O, TDO (0) (hiz), 110 GND (power), 111 I/O (2) (io), 112 I/O, GCK7 (5) (io), 113 I/O (8) (io), 114 I/O (11) (io), 115 I/O (CS1) (14) (io), 116 I/O (17) (io), 117 I/O (20) (io), 118 GND (power), 119 I/O (32) (io), 120 I/O (35) (io), 121 I/O (38) (io), 122 I/O (41) (io), 123 I/O (50) (io), 124 I/O (53) (io), 125 I/O (56) (io), 126 I/O (59) (io), 127 GND (power), 129 I/O (62) (io), 130 I/O (65) (io), 131 I/O (68) (io), 132 I/O (71) (io), 133 I/O (80) (io), 134 I/O (83) (io), 135 I/O (86) (io), 136 I/O (89) (io), 137 GND (power), 138 I/O (104) (io), 139 I/O (107) (io), 140 I/O (110) (io), 141 I/O (113) (io), 142 I/O (116) (io), 143 I/O, GCK8 (119) (io), 144 VCC (power)

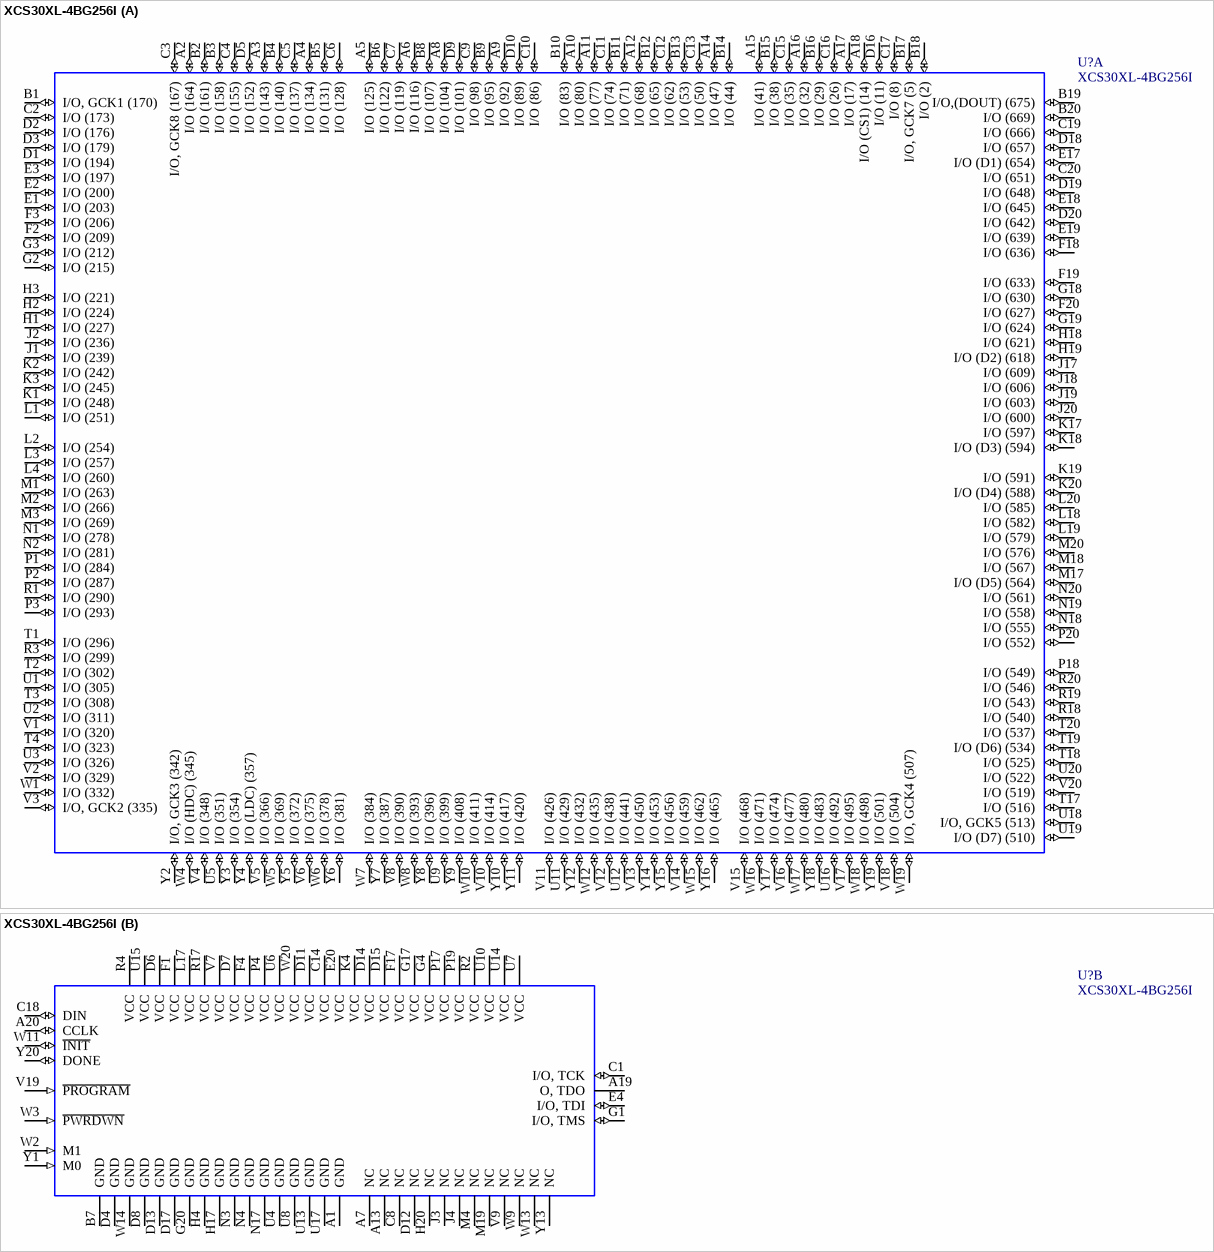
[diagram p18: symbol XCS30XL-4BG256I]

## XCS30XL-4BG256I
designator U?
Spartan XL FPGA; Manufacturer: Xilinx; Revision: July-2002: Re-released for DXP Platform.; Package Reference: BG256; Class I: FPGA; Class II: Spartan
footprint BGA27x27-B256
part A pins: A2 I/O (164) (io), A3 I/O (143) (io), A4 I/O (134) (io), A5 I/O (125) (io), A6 I/O (116) (io), A8 I/O (104) (io), A9 I/O (92) (io), A10 I/O (80) (io), A11 I/O (77) (io), A12 I/O (68) (io), A14 I/O (47) (io), A15 I/O (41) (io), A16 I/O (32) (io), A17 I/O (17) (io), A18 I/O (CS1) (14) (io), B1 I/O, GCK1 (170) (io), B2 I/O (161) (io), B3 I/O (158) (io), B4 I/O (140) (io), B5 I/O (131) (io), B6 I/O (122) (io), B8 I/O (107) (io), B9 I/O (95) (io), B10 I/O (83) (io), B11 I/O (71) (io), B12 I/O (65) (io), B13 I/O (53) (io), B14 I/O (44) (io), B15 I/O (38) (io), B16 I/O (29) (io), B17 I/O, GCK7 (5) (io), B18 I/O (2) (io), B19 I/O,(DOUT) (675) (io), B20 I/O (669) (io), C2 I/O (173) (io), C3 I/O, GCK8 (167) (io), C4 I/O (155) (io), C5 I/O (137) (io), C6 I/O (128) (io), C7 I/O (119) (io), C9 I/O (98) (io), C10 I/O (86) (io), C11 I/O (74) (io), C12 I/O (62) (io), C13 I/O (50) (io), C15 I/O (35) (io), C16 I/O (26) (io), C17 I/O (8) (io), C19 I/O (666) (io), C20 I/O (651) (io), D1 I/O (194) (io), D2 I/O (176) (io), D3 I/O (179) (io), D5 I/O (152) (io), D9 I/O (101) (io), D10 I/O (89) (io), D16 I/O (11) (io), D18 I/O (657) (io), D19 I/O (648) (io), D20 I/O (642) (io), E1 I/O (203) (io), E2 I/O (200) (io), E3 I/O (197) (io), E17 I/O (D1) (654) (io), E18 I/O (645) (io), E19 I/O (639) (io), F2 I/O (209) (io), F3 I/O (206) (io), F18 I/O (636) (io), F19 I/O (633) (io), F20 I/O (627) (io), G2 I/O (215) (io), G3 I/O (212) (io), G18 I/O (630) (io), G19 I/O (624) (io), H1 I/O (227) (io), H2 I/O (224) (io), H3 I/O (221) (io), H18 I/O (621) (io), H19 I/O (D2) (618) (io), J1 I/O (239) (io), J2 I/O (236) (io), J17 I/O (609) (io), J18 I/O (606) (io), J19 I/O (603) (io), J20 I/O (600) (io), K1 I/O (248) (io), K2 I/O (242) (io), K3 I/O (245) (io), K17 I/O (597) (io), K18 I/O (D3) (594) (io), K19 I/O (591) (io), K20 I/O (D4) (588) (io), L1 I/O (251) (io), L2 I/O (254) (io), L3 I/O (257) (io), L4 I/O (260) (io), L18 I/O (582) (io), L19 I/O (579) (io), L20 I/O (585) (io), M1 I/O (263) (io), M2 I/O (266) (io), M3 I/O (269) (io), M17 I/O (D5) (564) (io), M18 I/O (567) (io), M20 I/O (576) (io), N1 I/O (278) (io), N2 I/O (281) (io), N18 I/O (555) (io), N19 I/O (558) (io), N20 I/O (561) (io), P1 I/O (284) (io), P2 I/O (287) (io), P3 I/O (293) (io), P18 I/O (549) (io), P20 I/O (552) (io), R1 I/O (290) (io), R3 I/O (299) (io), R18 I/O (540) (io), R19 I/O (543) (io), R20 I/O (546) (io), T1 I/O (296) (io), T2 I/O (302) (io), T3 I/O (308) (io), T4 I/O (323) (io), T17 I/O (516) (io), T18 I/O (525) (io), T19 I/O (D6) (534) (io), T20 I/O (537) (io), U1 I/O (305) (io), U2 I/O (311) (io), U3 I/O (326) (io), U5 I/O (351) (io), U9 I/O (399) (io), U11 I/O (429) (io), U12 I/O (441) (io), U16 I/O (492) (io), U18 I/O, GCK5 (513) (io), U19 I/O (D7) (510) (io), U20 I/O (522) (io), V1 I/O (320) (io), V2 I/O (329) (io), V3 I/O, GCK2 (335) (io), V4 I/O (348) (io), V5 I/O (366) (io), V6 I/O (375) (io), V8 I/O (390) (io), V10 I/O (414) (io), V11 I/O (426) (io), V12 I/O (438) (io), V13 I/O (450) (io), V14 I/O (459) (io), V15 I/O (468) (io), V16 I/O (477) (io), V17 I/O (495) (io), V18 I/O (504) (io), V20 I/O (519) (io), W1 I/O (332) (io), W4 I/O (HDC) (345) (io), W5 I/O (369) (io), W6 I/O (378) (io), W7 I/O (384) (io), W8 I/O (393) (io), W10 I/O (411) (io), W12 I/O (435) (io), W15 I/O (462) (io), W16 I/O (471) (io), W17 I/O (480) (io), W18 I/O (498) (io), W19 I/O, GCK4 (507) (io), Y2 I/O, GCK3 (342) (io), Y3 I/O (354) (io), Y4 I/O (LDC) (357) (io), Y5 I/O (372) (io), Y6 I/O (381) (io), Y7 I/O (387) (io), Y8 I/O (396) (io), Y9 I/O (408) (io), Y10 I/O (417) (io), Y11 I/O (420) (io), Y12 I/O (432) (io), Y14 I/O (453) (io), Y15 I/O (456) (io), Y16 I/O (465) (io), Y17 I/O (474) (io), Y18 I/O (483) (io), Y19 I/O (501) (io)
part B pins: A1 GND (power), A7 NC, A13 NC, A19 O, TDO (hiz), A20 CCLK (io), B7 GND (power), C1 I/O, TCK (io), C8 NC, C14 VCC (power), C18 DIN (io), D4 GND (power), D6 VCC (power), D7 VCC (power), D8 GND (power), D11 VCC (power), D12 NC, D13 GND (power), D14 VCC (power), D15 VCC (power), D17 GND (power), E4 I/O, TDI (io), E20 VCC (power), F1 VCC (power), F4 VCC (power), F17 VCC (power), G1 I/O, TMS (io), G4 VCC (power), G17 VCC (power), G20 GND (power), H4 GND (power), H17 GND (power), H20 NC, J3 NC, J4 NC, K4 VCC (power), L17 VCC (power), M4 NC, M19 NC, N3 GND (power), N4 GND (power), N17 GND (power), P4 VCC (power), P17 VCC (power), P19 VCC (power), R2 VCC (power), R4 VCC (power), R17 VCC (power), U4 GND (power), U6 VCC (power), U7 VCC (power), U8 GND (power), U10 VCC (power), U13 GND (power), U14 VCC (power), U15 VCC (power), U17 GND (power), V7 VCC (power), V9 NC, V19 ~{PROGRAM} (in), W2 M1 (in), W3 ~{PWRDWN} (in), W9 NC, W11 ~{INIT} (io), W13 NC, W14 GND (power), W20 VCC (power), Y1 M0 (in), Y13 NC, Y20 DONE (io)

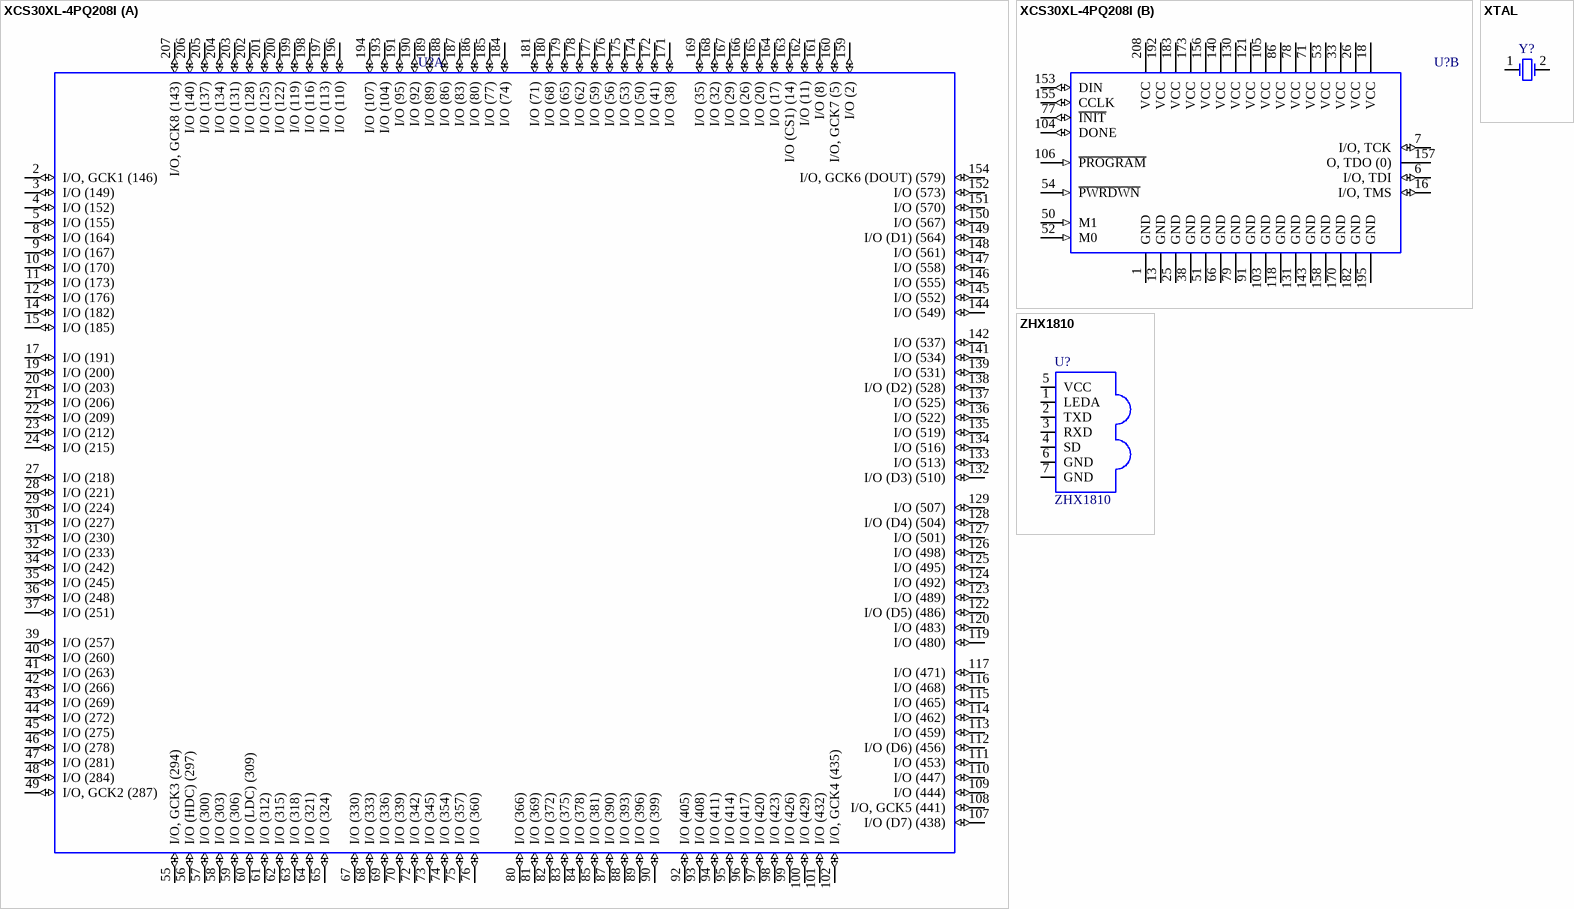
[diagram p19: symbols XCS30XL-4PQ208I to ZHX1810]

## XCS30XL-4PQ208I
designator U?
Spartan XL FPGA; Manufacturer: Xilinx; Revision: July-2002: Re-released for DXP Platform.; Package Reference: PQ208; Class I: FPGA; Class II: Spartan
footprint F-QFP28x28-G208/P.5N
part A pins: 2 I/O, GCK1 (146) (io), 3 I/O (149) (io), 4 I/O (152) (io), 5 I/O (155) (io), 8 I/O (164) (io), 9 I/O (167) (io), 10 I/O (170) (io), 11 I/O (173) (io), 12 I/O (176) (io), 14 I/O (182) (io), 15 I/O (185) (io), 17 I/O (191) (io), 19 I/O (200) (io), 20 I/O (203) (io), 21 I/O (206) (io), 22 I/O (209) (io), 23 I/O (212) (io), 24 I/O (215) (io), 27 I/O (218) (io), 28 I/O (221) (io), 29 I/O (224) (io), 30 I/O (227) (io), 31 I/O (230) (io), 32 I/O (233) (io), 34 I/O (242) (io), 35 I/O (245) (io), 36 I/O (248) (io), 37 I/O (251) (io), 39 I/O (257) (io), 40 I/O (260) (io), 41 I/O (263) (io), 42 I/O (266) (io), 43 I/O (269) (io), 44 I/O (272) (io), 45 I/O (275) (io), 46 I/O (278) (io), 47 I/O (281) (io), 48 I/O (284) (io), 49 I/O, GCK2 (287) (io), 55 I/O, GCK3 (294) (io), 56 I/O (HDC) (297) (io), 57 I/O (300) (io), 58 I/O (303) (io), 59 I/O (306) (io), 60 I/O (LDC) (309) (io), 61 I/O (312) (io), 62 I/O (315) (io), 63 I/O (318) (io), 64 I/O (321) (io), 65 I/O (324) (io), 67 I/O (330) (io), 68 I/O (333) (io), 69 I/O (336) (io), 70 I/O (339) (io), 72 I/O (342) (io), 73 I/O (345) (io), 74 I/O (354) (io), 75 I/O (357) (io), 76 I/O (360) (io), 80 I/O (366) (io), 81 I/O (369) (io), 82 I/O (372) (io), 83 I/O (375) (io), 84 I/O (378) (io), 85 I/O (381) (io), 87 I/O (390) (io), 88 I/O (393) (io), 89 I/O (396) (io), 90 I/O (399) (io), 92 I/O (405) (io), 93 I/O (408) (io), 94 I/O (411) (io), 95 I/O (414) (io), 96 I/O (417) (io), 97 I/O (420) (io), 98 I/O (423) (io), 99 I/O (426) (io), 100 I/O (429) (io), 101 I/O (432) (io), 102 I/O, GCK4 (435) (io), 107 I/O (D7) (438) (io), 108 I/O, GCK5 (441) (io), 109 I/O (444) (io), 110 I/O (447) (io), 111 I/O (453) (io), 112 I/O (D6) (456) (io), 113 I/O (459) (io), 114 I/O (462) (io), 115 I/O (465) (io), 116 I/O (468) (io), 117 I/O (471) (io), 119 I/O (480) (io), 120 I/O (483) (io), 122 I/O (D5) (486) (io), 123 I/O (489) (io), 124 I/O (492) (io), 125 I/O (495) (io), 126 I/O (498) (io), 127 I/O (501) (io), 128 I/O (D4) (504) (io), 129 I/O (507) (io), 132 I/O (D3) (510) (io), 133 I/O (513) (io), 134 I/O (516) (io), 135 I/O (519) (io), 136 I/O (522) (io), 137 I/O (525) (io), 138 I/O (D2) (528) (io), 139 I/O (531) (io), 141 I/O (534) (io), 142 I/O (537) (io), 144 I/O (549) (io), 145 I/O (552) (io), 146 I/O (555) (io), 147 I/O (558) (io), 148 I/O (561) (io), 149 I/O (D1) (564) (io), 150 I/O (567) (io), 151 I/O (570) (io), 152 I/O (573) (io), 154 I/O, GCK6 (DOUT) (579) (io), 159 I/O (2) (io), 160 I/O, GCK7 (5) (io), 161 I/O (8) (io), 162 I/O (11) (io), 163 I/O (CS1) (14) (io), 164 I/O (17) (io), 165 I/O (20) (io), 166 I/O (26) (io), 167 I/O (29) (io), 168 I/O (32) (io), 169 I/O (35) (io), 171 I/O (38) (io), 172 I/O (41) (io), 174 I/O (50) (io), 175 I/O (53) (io), 176 I/O (56) (io), 177 I/O (59) (io), 178 I/O (62) (io), 179 I/O (65) (io), 180 I/O (68) (io), 181 I/O (71) (io), 184 I/O (74) (io), 185 I/O (77) (io), 186 I/O (80) (io), 187 I/O (83) (io), 188 I/O (86) (io), 189 I/O (89) (io), 190 I/O (92) (io), 191 I/O (95) (io), 193 I/O (104) (io), 194 I/O (107) (io), 196 I/O (110) (io), 197 I/O (113) (io), 198 I/O (116) (io), 199 I/O (119) (io), 200 I/O (122) (io), 201 I/O (125) (io), 202 I/O (128) (io), 203 I/O (131) (io), 204 I/O (134) (io), 205 I/O (137) (io), 206 I/O (140) (io), 207 I/O, GCK8 (143) (io)
part B pins: 1 GND (power), 6 I/O, TDI (io), 7 I/O, TCK (io), 13 GND (power), 16 I/O, TMS (io), 18 VCC (power), 25 GND (power), 26 VCC (power), 33 VCC (power), 38 GND (power), 50 M1 (in), 51 GND (power), 52 M0 (in), 53 VCC (power), 54 ~{PWRDWN} (in), 66 GND (power), 71 VCC (power), 77 ~{INIT} (io), 78 VCC (power), 79 GND (power), 86 VCC (power), 91 GND (power), 103 GND (power), 104 DONE (io), 105 VCC (power), 106 ~{PROGRAM} (in), 118 GND (power), 121 VCC (power), 130 VCC (power), 131 GND (power), 140 VCC (power), 143 GND (power), 153 DIN (io), 155 CCLK (io), 156 VCC (power), 157 O, TDO (0) (hiz), 158 GND (power), 170 GND (power), 173 VCC (power), 182 GND (power), 183 VCC (power), 192 VCC (power), 195 GND (power), 208 VCC (power)

## XTAL
designator Y?
Crystal Oscillator; Manufacturer: Generic Components; Published: 8-Jun-2000; Revision: July-2002: Re-released for DXP Platform.; Publisher: Altium Limited; Class I: Oscillator; Class II: Crystal Oscillator
footprint BCY-W2/D3.1
simulation model XTAL (Spice Subcircuit)
pins: 1 OSC1, 2 OSC2

## ZHX1810
designator U?
IrDA Transceiver
footprint ZHX1810 (IrDA transceiver)
pins: 1 LEDA, 2 TXD, 3 RXD, 4 SD, 5 VCC, 6 GND, 7 GND